# Altium schematic symbol library ZHCS400TA.SchLib: 2 symbols
Pins are listed as number, name and electrical type; pins without a type are passive.

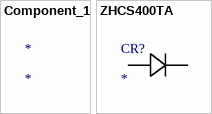
[diagram p0: symbols Component_1 to ZHCS400TA]

## Component_1
designator *

## ZHCS400TA
designator CR?
No Description Available; Mfr_Name: Diodes Inc
footprint DIODE_SOD323_DIO
pins: 1, 2